# EAGLE library part PINHD-2X10 (library headstage)
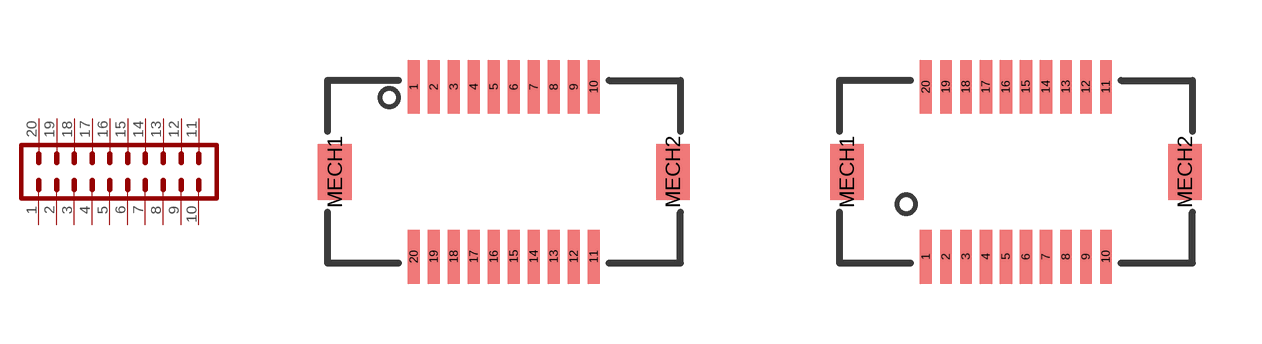
[diagram p1: symbol with the pads of JMD20-RA; footprints JMD20-RA, JMD20-V]

Designator prefix -

## PINHD-2X10_JMD-RA  [JMD20-RA]
1  1
2  2
3  3
4  4
5  5
6  6
7  7
8  8
9  9
10  10
11  11
12  12
13  13
14  14
15  15
16  16
17  17
18  18
19  19
20  20

## PINHD-2X10_JMD20-V  [JMD20-V]
Pads as for JMD20-RA

## Footprint JMD20-RA (pad centres in mm)
smd 0.3 x 1.35: 1 -4.5,2.125; 2 -4,2.125; 3 -3.5,2.125; 4 -3,2.125; 5 -2.5,2.125; 6 -2,2.125; 7 -1.5,2.125; 8 -1,2.125; 9 -0.5,2.125; 10 0,2.125; 11 0,-2.125; 12 -0.5,-2.125; 13 -1,-2.125; 14 -1.5,-2.125; 15 -2,-2.125; 16 -2.5,-2.125; 17 -3,-2.125; 18 -3.5,-2.125; 19 -4,-2.125; 20 -4.5,-2.125
smd 0.85 x 1.4: MECH1 -6.475,0; MECH2 1.975,0

## Footprint JMD20-V (pad centres in mm)
smd 0.3 x 1.35: 1 -2.25,-2.125; 2 -1.75,-2.125; 3 -1.25,-2.125; 4 -0.75,-2.125; 5 -0.25,-2.125; 6 0.25,-2.125; 7 0.75,-2.125; 8 1.25,-2.125; 9 1.75,-2.125; 10 2.25,-2.125; 11 2.25,2.125; 12 1.75,2.125; 13 1.25,2.125; 14 0.75,2.125; 15 0.25,2.125; 16 -0.25,2.125; 17 -0.75,2.125; 18 -1.25,2.125; 19 -1.75,2.125; 20 -2.25,2.125
smd 0.85 x 1.4: MECH1 -4.225,0; MECH2 4.225,0